# Altium footprint library temp.PcbLib: 4 footprints
Each footprint in its own frame and in the unit in brackets; x right, y up, seen from the top. Pads: shape width x height; smd on the part's side, far side on the other; paste and mask are expansions set on the pad; w line width, h text height; cw(c..) or ccw(c..) is an arc to the next point about the centre after c.
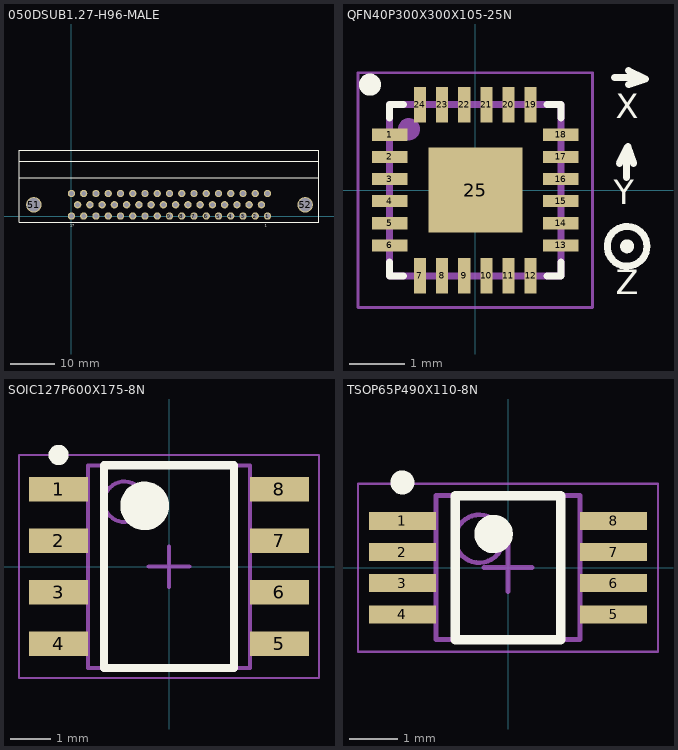
[diagram p0: the footprints below, top view; thin cyan lines are the x and y axes]

## 050DSUB1.27-H96-MALE [mil] "Connector; D Subminiature; 96 Position; Right Angle; Pitch 1.27 mm"
height 295.28
pads (52):
  round 65 hole 43.31: 1(1738.58,0) 2(1629.92,0) 3(1521.26,0) 4(1412.6,0) 5(1303.94,0) 6(1195.28,0) 7(1086.61,0) 8(977.95,0) 9(869.29,0) 10(760.63,0) 11(651.97,0) 12(543.31,0) 13(434.65,0) 14(325.98,0) 15(217.32,0) 16(108.66,0) 17(0,0) 18(1684.25,100) 19(1575.62,100) 20(1466.98,100) 21(1358.35,100) 22(1249.71,100) 23(1141.08,100) 24(1032.44,100) 25(923.81,100) 26(815.17,100) 27(706.54,100) 28(597.9,100) 29(489.27,100) 30(380.63,100) 31(272,100) 32(163.36,100) 33(54.73,100) 34(1738.58,200) 35(1629.92,200) 36(1521.26,200) 37(1412.6,200) 38(1303.94,200) 39(1195.28,200) 40(1086.61,200) 41(977.95,200) 42(869.29,200) 43(760.63,200) 44(651.97,200) 45(543.31,200) 46(434.65,200) 47(325.98,200) 48(217.32,200) 49(108.66,200) 50(0,200)
  round 138 hole 122.05: 51(-333.46,100) 52(2072.05,100)
Top Overlay:
  lines w7.87: -465,-55 2195,-55 ; -465,585 -465,340 2190,340
  lines w10: -465,-55 -465,340 ; -465,485 2195,485 ; -465,585 2195,585 2195,330 2195,-55
  text "1" at 1715,-105 h40
  text "17" at -10,-105 h40
3D body "0966552X61Y_100706308MOD000B.STP": height 547.24, standoff -122.05, extent -453.9,-42.36 2183.89,817.09

## QFN40P300X300X105-25N [mm]
pads (25):
  rect 0.64x0.22 smd: 1(-1.545,1) 2(-1.545,0.6) 3(-1.545,0.2) 4(-1.545,-0.2) 5(-1.545,-0.6) 6(-1.545,-1) 13(1.545,-1) 14(1.545,-0.6) 15(1.545,-0.2) 16(1.545,0.2) 17(1.545,0.6) 18(1.545,1)
  rect 0.22x0.64 smd: 7(-1,-1.545) 8(-0.6,-1.545) 9(-0.2,-1.545) 10(0.2,-1.545) 11(0.6,-1.545) 12(1,-1.545) 19(1,1.545) 20(0.6,1.545) 21(0.2,1.545) 22(-0.2,1.545) 23(-0.6,1.545) 24(-1,1.545)
  rect 1.7x1.54 smd: 25(0,0)
Top Overlay:
  circle w0.2: c-1.905,1.905 r0.1
  circle w0.127: c2.743,-1.016 r0.064
  circle w0.127: c2.743,-1.016 r0.359
  lines w0.127: -1.55,-1.3 -1.55,-1.55 -1.3,-1.55 ; -1.55,1.3 -1.55,1.55 -1.3,1.55 ; 1.3,-1.55 1.55,-1.55 1.55,-1.3 ; 1.3,1.55 1.55,1.55 1.55,1.3 ; 2.515,2.032 3.023,2.032 ; 2.603,0.483 2.73,0.737 ; 2.73,0.229 2.73,0.737 ; 2.769,1.905 3.073,2.007 3.023,2.032 ; 2.769,2.159 3.023,2.032 ; 2.857,0.483 2.756,0.787 2.73,0.737
  text "Z" at 2.54,-2.032 h0.76
  text "X" at 2.54,1.143 h0.76
  text "Y" at 2.502,-0.406 h0.76
Top Paste:
  region: -0.69,0.61 -0.08,0.61 -0.08,0.08 -0.69,0.08
  region: 0.08,0.61 0.69,0.61 0.69,0.08 0.08,0.08
  region: -0.691,-0.08 -0.08,-0.08 -0.08,-0.611 -0.691,-0.611
  region: 0.08,-0.08 0.69,-0.08 0.69,-0.61 0.08,-0.61
Mechanical 4:
  circle w0.2: c-1.2,1.1 r0.1
  circle w0.2: c-1.2,1.1 r0.1
  lines w0.127: -1.55,-1.55 1.55,-1.55 ; -1.55,-1.55 -1.55,1.55 ; -1.55,-1.55 1.55,-1.55 ; -1.55,-1.55 -1.55,1.55 ; -1.55,1.55 1.55,1.55 ; -1.55,1.55 1.55,1.55 ; 1.55,-1.55 1.55,1.55 ; 1.55,-1.55 1.55,1.55
Mechanical 15:
  lines w0.05: -2.12,-2.12 -2.12,2.12 2.12,2.12 2.12,-2.12 -2.12,-2.12
3D body "ICM-20948--3DModel-STEP-56544.STEP": height 1.03, standoff -0.02, extent -1.476,-1.5 1.524,1.5

## SOIC127P600X175-8N [mm] "SOIC, 8-Leads, Body 4.90x3.90mm, Pitch 1.27mm, IPC Medium Density"
height 1.75
pads (8):
  rect 1.45x0.6 smd: 1(-2.725,1.905) 2(-2.725,0.635) 3(-2.725,-0.635) 4(-2.725,-1.905) 5(2.725,-1.905) 6(2.725,-0.635) 7(2.725,0.635) 8(2.725,1.905)
Top Overlay:
  circle w0.6: c-0.6,1.5 r0.3
  circle w0.25: c-2.725,2.755 r0.125
  lines w0.2: -1.6,-2.5 1.6,-2.5 1.6,2.5 -1.6,2.5 -1.6,-2.5
Mechanical 13:
  circle w0.1: c-1.1,1.6 r0.5
  lines w0.1: -2,-2.5 2,-2.5 2,2.5 -2,2.5 -2,-2.5
Mechanical 15:
  lines w0.05: -3.7,-2.75 3.7,-2.75 3.7,2.75 -3.7,2.75 -3.7,-2.75
  lines w0.1: -0.5,0 0.5,0 ; 0,-0.5 0,0.5
3D body "SOIC127P600X175-8N.step": height 1.75, standoff 0, extent -3,-2.5 3,2.5

## TSOP65P490X110-8N [mm] "TSOP, 8-Leads, Body 3.00x3.00mm, Pitch 0.65mm, IPC Medium Density"
height 1.1
pads (8):
  rect 1.4x0.375 smd: 1(-2.2,0.975) 2(-2.2,0.325) 3(-2.2,-0.325) 4(-2.2,-0.975) 5(2.2,-0.975) 6(2.2,-0.325) 7(2.2,0.325) 8(2.2,0.975)
Top Overlay:
  circle w0.25: c-2.2,1.775 r0.125
  circle w0.4: c-0.3,0.7 r0.2
  lines w0.2: -1.1,-1.5 -1.1,1.5 1.1,1.5 1.1,-1.5 -1.1,-1.5
Mechanical 13:
  circle w0.1: c-0.6,0.6 r0.5
  lines w0.1: -1.5,-1.5 -1.5,1.5 1.5,1.5 1.5,-1.5 -1.5,-1.5
Mechanical 15:
  lines w0.05: -3.125,-1.75 -3.125,1.75 3.125,1.75 3.125,-1.75 -3.125,-1.75
  lines w0.1: -0.5,0 0.5,0 ; 0,-0.5 0,0.5
3D body "TSOP65P490X110-8N.step": height 1.1, standoff 0, extent -2.45,-1.5 2.45,1.5